# Altium footprint library IP5389_PCBLIB.PcbLib: 13 footprints
Each footprint in its own frame and in the unit in brackets; x right, y up, seen from the top. Pads: shape width x height; smd on the part's side, far side on the other; paste and mask are expansions set on the pad; w line width, h text height; cw(c..) or ccw(c..) is an arc to the next point about the centre after c.
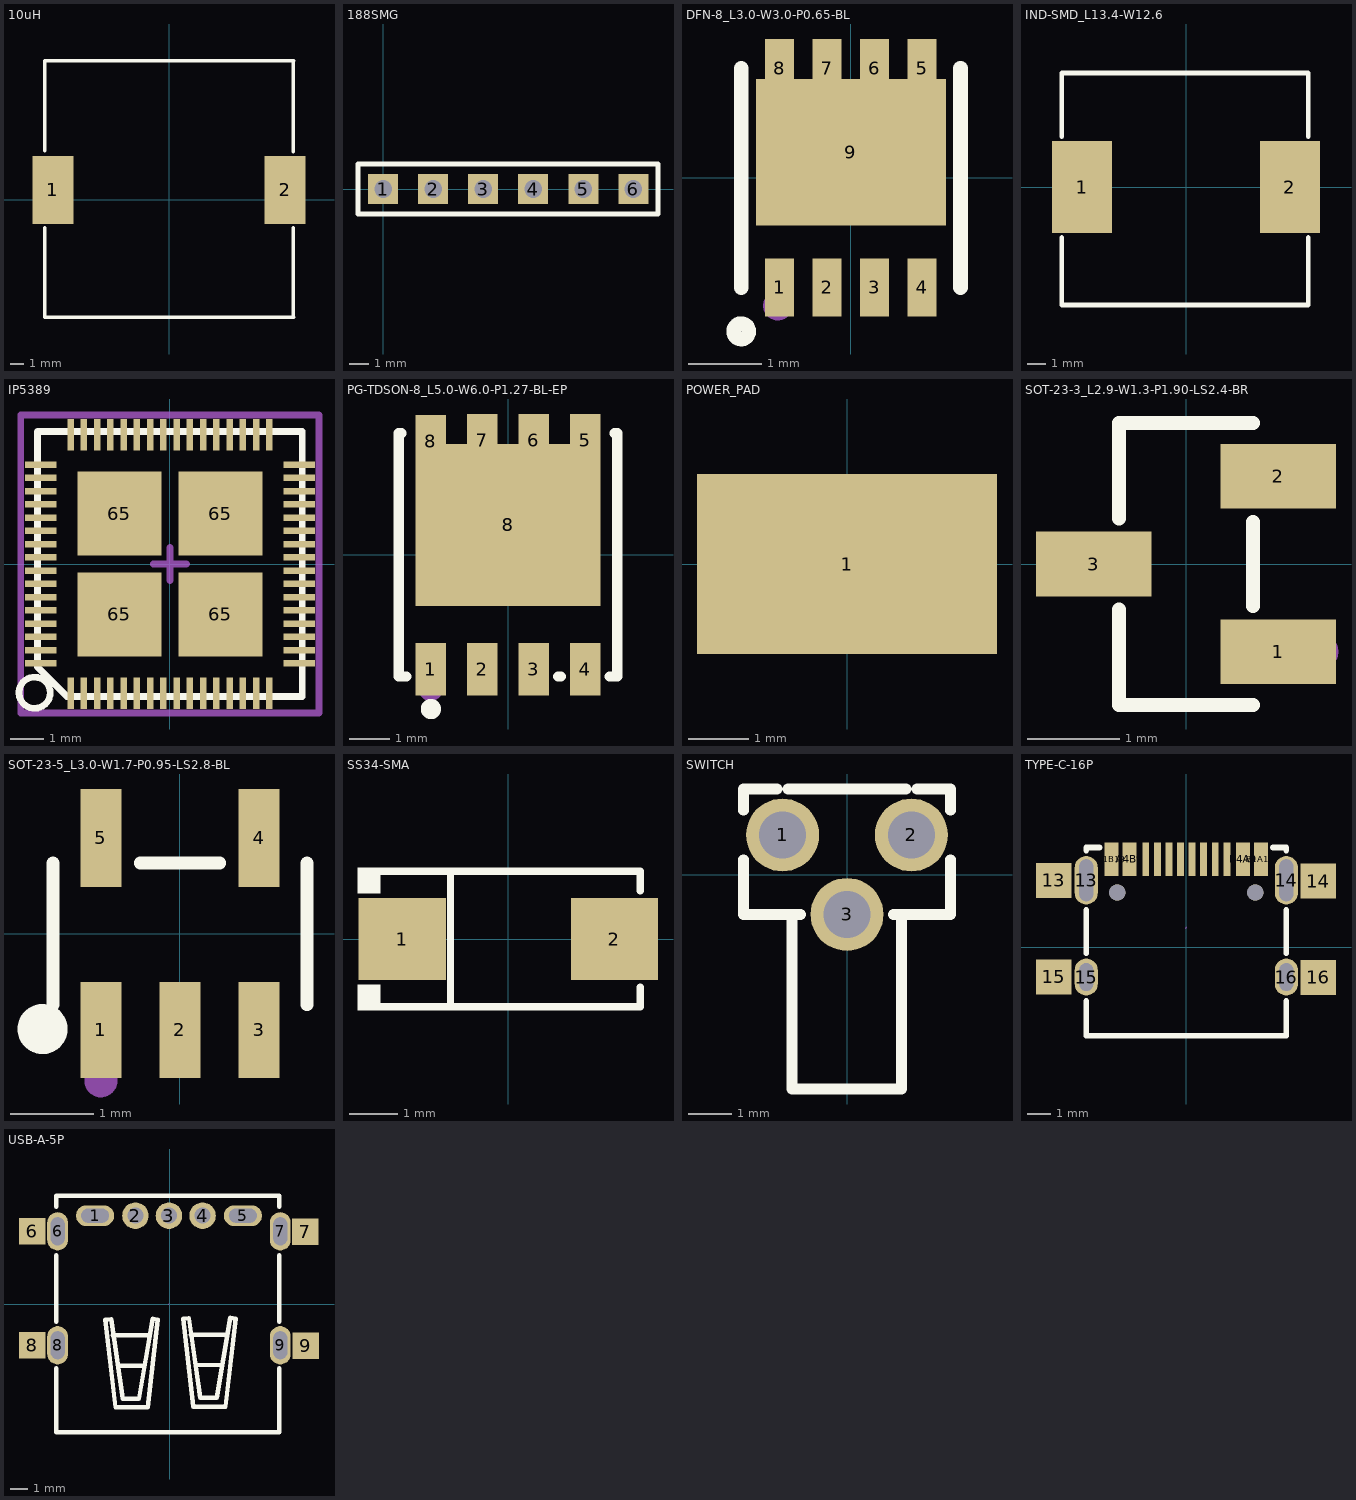
[diagram p0: the footprints below, top view; thin cyan lines are the x and y axes]

## 10uH [mm] "SMD-18.2*18.3"
pads (2):
  rect 3x5 smd: 1(-8.565,0.711) 2(8.509,0.711)
Top Overlay:
  lines w0.254: -9.165,-2.06 -9.165,-8.66 9.135,-8.66 ; -9.165,3.569 -9.165,10.169 ; -9.165,10.209 9.135,10.209 ; 9.115,-8.66 9.115,-2.06 ; 9.119,3.509 9.119,10.109

## 188SMG [mil]
pads (6):
  rect 60x60 hole 35: 1(0,0) 2(100,0) 3(200,0) 4(300,0) 5(400,0) 6(500,0)
Top Overlay:
  lines w10: -50,-50 549.21,-50 549.21,50 -50,50 -50,-50

## DFN-8_L3.0-W3.0-P0.65-BL [mm]
pads (9):
  rect 0.4x0.8 smd: 1(-0.975,-1.5) 2(-0.325,-1.5) 3(0.325,-1.5) 4(0.975,-1.5) 5(0.975,1.5) 6(0.325,1.5) 7(-0.325,1.5) 8(-0.975,1.5)
  rect 2.6x2 smd: 9(0,0.35)
Top Overlay:
  circle w0.2: c-1.5,-2.1 r0.105
  lines w0.2: -1.5,-1.5 -1.5,1.5 ; 1.5,-1.5 1.5,1.5
Top Paste:
  region: 1.175,1.1 0.775,1.1 0.775,1.9 1.175,1.9
  region: 0.525,1.1 0.125,1.1 0.125,1.9 0.525,1.9
  region: -0.124,1.1 -0.525,1.1 -0.525,1.9 -0.124,1.9
  region: -0.775,1.1 -1.175,1.1 -1.175,1.9 -0.775,1.9
  region: 1.175,-1.9 0.775,-1.9 0.775,-1.1 1.175,-1.1
  region: 0.525,-1.9 0.125,-1.9 0.125,-1.1 0.525,-1.1
  region: -0.125,-1.9 -0.525,-1.9 -0.525,-1.1 -0.125,-1.1
  region: -0.775,-1.9 -1.175,-1.9 -1.175,-1.1 -0.775,-1.1
  region: -1.294,0.85 1.289,0.85 1.3,-0.647 -1.294,-0.65
Mechanical 15:
  circle w0.2: c-1,-1.75 r0.1

## IND-SMD_L13.4-W12.6 [mm]
pads (2):
  rect 3.25x5 smd: 1(-5.65,0) 2(5.65,0)
Top Overlay:
  lines w0.254: -6.75,-2.731 -6.75,-6.4 6.65,-6.4 6.65,-2.731 ; -6.75,2.731 -6.75,6.2 6.65,6.2 6.65,2.731

## IP5389 [mm]
pads (68):
  rect 0.2x0.95 smd: 1(-3,-3.9) 2(-2.6,-3.9) 3(-2.2,-3.9) 4(-1.8,-3.9) 5(-1.4,-3.9) 6(-1,-3.9) 7(-0.6,-3.9) 8(-0.2,-3.9) 9(0.2,-3.9) 10(0.6,-3.9) 11(1,-3.9) 12(1.4,-3.9) 13(1.8,-3.9) 14(2.2,-3.9) 15(2.6,-3.9) 16(3,-3.9) 33(3,3.9) 34(2.6,3.9) 35(2.2,3.9) 36(1.8,3.9) 37(1.4,3.9) 38(1,3.9) 39(0.6,3.9) 40(0.2,3.9) 41(-0.2,3.9) 42(-0.6,3.9) 43(-1,3.9) 44(-1.4,3.9) 45(-1.8,3.9) 46(-2.2,3.9) 47(-2.6,3.9) 48(-3,3.9)
  rect 0.95x0.2 smd: 17(3.9,-3) 18(3.9,-2.6) 19(3.9,-2.2) 20(3.9,-1.8) 21(3.9,-1.4) 22(3.9,-1) 23(3.9,-0.6) 24(3.9,-0.2) 25(3.9,0.2) 26(3.9,0.6) 27(3.9,1) 28(3.9,1.4) 29(3.9,1.8) 30(3.9,2.2) 31(3.9,2.6) 32(3.9,3) 49(-3.9,3) 50(-3.9,2.6) 51(-3.9,2.2) 52(-3.9,1.8) 53(-3.9,1.4) 54(-3.9,1) 55(-3.9,0.6) 56(-3.9,0.2) 57(-3.9,-0.2) 58(-3.9,-0.6) 59(-3.9,-1) 60(-3.9,-1.4) 61(-3.9,-1.8) 62(-3.9,-2.2) 63(-3.9,-2.6) 64(-3.9,-3)
  rrect0% 2.54x2.54 smd: 65(-1.524,-1.524) 65(-1.524,1.524) 65(1.524,-1.524) 65(1.524,1.524)
Top Overlay:
  circle w0.2: c-4.086,-3.886 r0.471
  lines w0.2: -4,-3.11 -4,4 4,4 4,-4 -3.11,-4 -4,-3.11
Mechanical 118:
  lines w0.2: -0.5,0 0,0 ; 0,-0.5 0,0 ; 0,0.5 0,0 ; 0.5,0 0,0 ; -4.5,-4.5 -4.5,4.5 4.5,4.5 4.5,-4.5 -4.5,-4.5

## PG-TDSON-8_L5.0-W6.0-P1.27-BL-EP [mil]
pads (9):
  rect 29.5x51.2 smd: 1(-75,-111) 2(-25,-111) 3(25,-111) 4(75,-111) 5(75,111) 6(25,111) 7(-25,111) 8(-75,110)
  rect 179.53x157.48 smd: 8(0,29)
Top Overlay:
  circle w10: c-74.8,-149.6 r4.8
  lines w10: -103.6,118 -106,118 -106,-118 -98.85,-118 ; 48.85,-118 51.15,-118 ; 98.85,-118 106,-118 106,118 103.6,118
Top Paste:
  region: -89.76,107.74 89.76,107.74 89.76,-49.74 -89.76,-49.74
  region: -89.76,-136.61 -60.23,-136.61 -60.23,-85.63 -60.23,-85.43 -60.43,-85.43 -89.76,-85.43
  region: -39.76,-136.61 -10.24,-136.61 -10.24,-85.63 -10.24,-85.43 -10.43,-85.43 -39.76,-85.43
  region: 10.24,-136.61 39.76,-136.61 39.76,-85.63 39.76,-85.43 39.57,-85.43 10.24,-85.43
  region: 60.24,-136.61 89.76,-136.61 89.76,-85.63 89.76,-85.43 89.57,-85.43 60.24,-85.43
  region: 60.24,136.61 89.77,136.61 89.77,121.45 60.24,121.45
  region: 10.24,136.61 39.76,136.61 39.76,121.46 10.24,121.46
  region: -39.76,136.61 -10.23,136.61 -10.23,121.46 -39.76,121.46
  region: -89.76,136.61 -60.24,136.61 -60.24,121.46 -89.76,121.46
Mechanical 15:
  circle w11.81: c-75,-130 r5.91

## POWER_PAD [mm] "POWER_PAD"
pads (1):
  rect 5x3 smd: 1(0,0)

## SOT-23-3_L2.9-W1.3-P1.90-LS2.4-BR [mm]
pads (3):
  rect 1.25x0.7 smd: 1(1,-0.95) 2(1,0.95) 3(-1,0)
Top Overlay:
  lines w0.152: -0.726,-0.495 -0.726,-1.526 0.726,-1.526 ; -0.726,0.495 -0.726,1.526 0.726,1.526 ; 0.726,-0.455 0.726,0.455
Mechanical 15:
  circle w0.2: c1.45,-0.95 r0.1

## SOT-23-5_L3.0-W1.7-P0.95-LS2.8-BL [mm]
pads (5):
  rect 0.49x1.157 smd: 1(-0.95,-1.154) 2(0,-1.154) 3(0.95,-1.154)
  rect 0.49x1.175 smd: 4(0.95,1.154) 5(-0.95,1.154)
Top Overlay:
  circle w0.3: c-1.651,-1.143 r0.15
  lines w0.152: -1.526,-0.851 -1.526,0.851 ; -0.476,0.851 0.476,0.851 ; 1.526,-0.851 1.526,0.851
Mechanical 15:
  circle w0.2: c-0.95,-1.763 r0.1

## SS34-SMA [mm] "SMA"
pads (2):
  rect 1.8x1.7 smd: 1(-2.192,0) 2(2.192,0)
Top Overlay:
  region: -2.65,1.477 -2.65,0.949 -3.107,0.949 -3.107,1.477
  region: -2.65,-1.477 -2.65,-0.949 -3.107,-0.949 -3.107,-1.477
  lines w0.152: -2.726,-1.401 2.726,-1.401 2.726,-1 ; -2.726,1.401 2.726,1.401 2.726,1 ; -1.197,-1.401 -1.197,1.401
Mechanical 15:
  region: -2.451,-0.099 -2.451,0.099 -1.656,0.099 -1.656,-0.099
  region: 2.451,-0.099 2.451,0.099 1.656,0.099 1.656,-0.099
  region: 2.153,-0.663 2.153,0.663 1.954,0.663 1.954,-0.663

## SWITCH [mm]
pads (3):
  round 1.7 hole 1.1: 1(-1.5,0.925) 2(1.5,0.925) 3(0,-0.925)
Top Overlay:
  lines w0.254: -2.413,0.348 -2.413,-0.925 -1.081,-0.925 ; -2.413,1.502 -2.413,1.996 -1.63,1.996 ; -1.37,1.996 1.37,1.996 ; -1.281,-0.925 -1.281,-4.989 1.27,-4.989 1.27,-0.925 ; 1.081,-0.925 2.413,-0.925 2.413,0.348 ; 1.63,1.996 2.413,1.996 2.413,1.502

## TYPE-C-16P [mm] "TYPE-C-16P"
pads (22):
  rect 1.524x1.524 smd: 13(-5.715,2.896) 14(5.715,2.87) 15(-5.715,-1.27) 16(5.715,-1.295)
  oval 1x2.099 hole 0.6 slot 1.8 at 90 deg: 13(-4.307,2.903) 14(4.333,2.903)
  oval 1x1.599 hole 0.6 slot 1.2 at 90 deg: 15(-4.307,-1.277) 16(4.333,-1.277)
  rect 0.6x1.45 smd: A1B12(-3.212,3.817) A4B9(-2.437,3.817) B1A12(3.233,3.817) B4A9(2.463,3.817)
  rect 0.3x1.45 smd: A5(-1.238,3.818) A6(-0.237,3.817) A7(0.263,3.817) A8(1.263,3.817) B5(1.763,3.817) B6(0.763,3.817) B7(-0.737,3.817) B8(-1.737,3.817)
  round 0.7 hole 0.7 unplated: ""(-2.967,2.372) ""(2.993,2.372)
Top Overlay:
  lines w0.254: -4.305,-2.309 -4.305,-3.81 4.331,-3.81 4.331,-2.309 ; -4.305,-0.246 -4.305,1.621 ; -4.305,4.184 -4.305,4.318 -3.743,4.318 ; 3.764,4.318 4.331,4.318 4.331,4.184 ; 4.331,-0.246 4.331,1.621
Mechanical 15:
  lines w0.003: -0.012,0.836 0.038,0.886

## USB-A-5P [mil] "USB-A-5PIN大电流"
height 250
pads (13):
  oval 86.61x47.24 hole 31.5 slot 62.99 at 0 deg: 1(-168.86,200) 5(165.79,200)
  round 60 hole 36: 2(-77.52,200) 3(-1.53,200) 4(74.45,200)
  rect 60x60 smd: 6(-311,165) 7(307,164) 8(-311,-93) 9(308,-94)
  oval 47.24x86.61 hole 31.5 slot 62.99 at 90 deg: 6(-253.5,164.57) 7(250.43,164.57) 8(-253.5,-93.31) 9(250.43,-93.31)
Top Overlay:
  lines w10: -256.54,-145 -256.54,-290 248.47,-290 248.47,-145 ; -256.54,-40 -256.54,110 ; -256.54,220 -256.54,245 248.47,245 248.47,220 ; -128.53,-71 -46.53,-71 ; -115.54,-140 -58.53,-140 ; 47.46,-69 129.46,-69 ; 60.47,-138 117.46,-138 ; 248.47,-40 248.47,110 ; -145.44,-35.3 -122.54,-234 -49.53,-234 -26.54,-35 -38.53,-33 -69.53,-214 -106.53,-214 -132.34,-34.3 -145.44,-35.3 ; 30.57,-33.3 43.66,-32.3 69.46,-212 106.47,-212 137.46,-31 149.46,-33 126.47,-232 53.47,-232 30.57,-33.3
Mechanical 15:
  lines w0.1: -2.54,-1.41 -0.54,0.59